# Altium integrated library Cypress Clocks & Buffers Clock Generation.IntLib: 249 symbols (part 1 of 12)
Pins are listed as number, name and electrical type; pins without a type are passive.

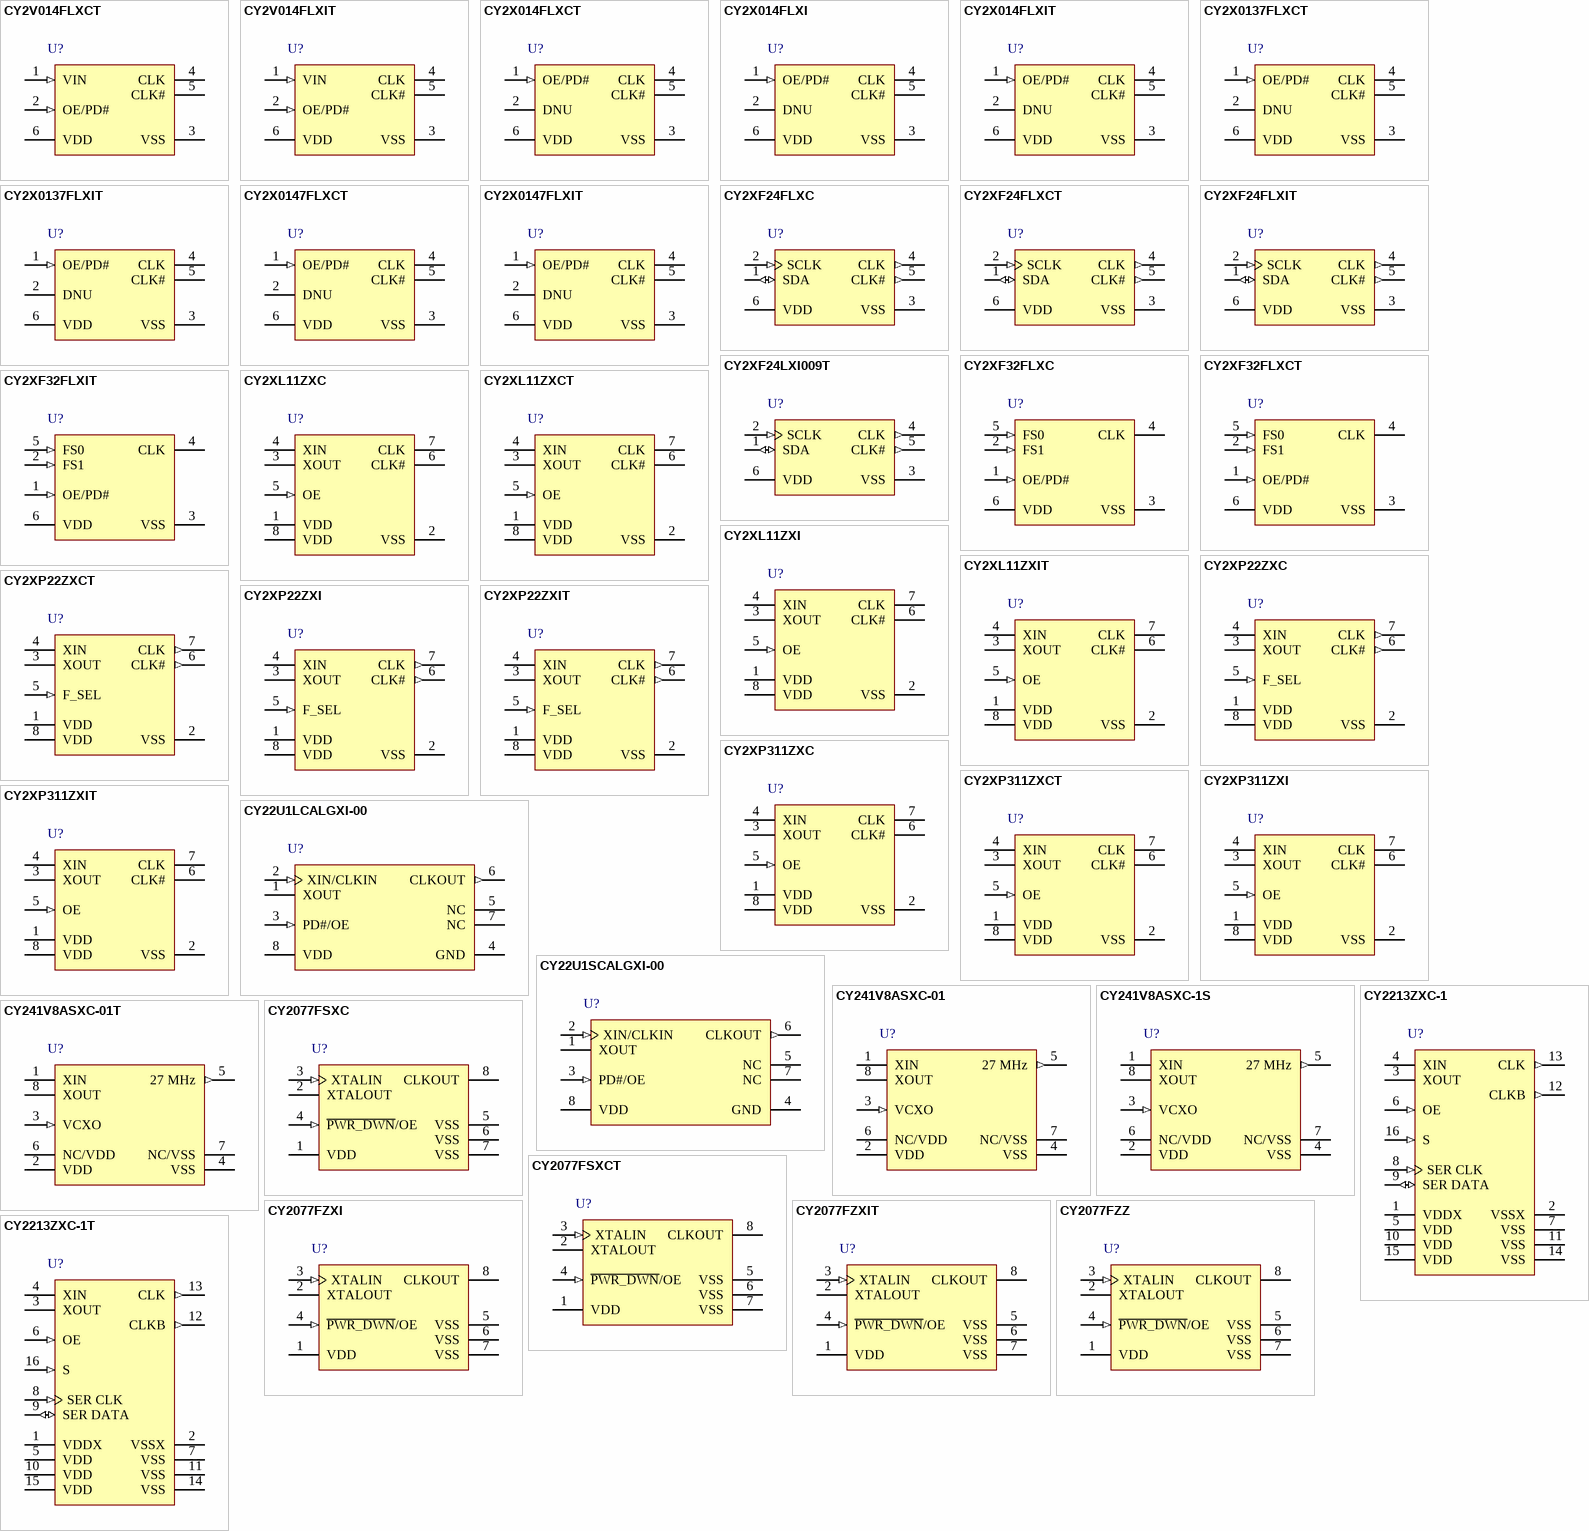
[diagram p0: symbols CY2V014FLXCT to CY2213ZXC-1T]

## CY2V014FLXCT
designator U?
LVPECL Voltage Controlled Crystal Oscillator (VCXO), 2.5 / 3.3 V, 1 Outputs, 50 to 690 MHz, 0 to 70 degC, 6-Pin LCC (LX6), Tape and Reel; Manufacturer: Cypress; PartNumber: CY2V014FLXCT; Max. Operating Voltage (V): 3.6; Min. Operating Voltage (V): 2.25; No. of Outputs: 1; Output Frequency Max. (MHz): 690; Output Frequency Min. (MHz): 50; DatasheetVersion: Rev. *C; PackageVersion: Rev. *A, 11/2009; PackageReference: LX6; PackageDescription: 6-Pin Ceramic LCC, Body 5 x 3.2 mm, Pitch 1.27 mm; Supplier 1: Digi-Key; Supplier Part Number 1: CY2V014FLXCT-ND; Supplier 2: Mouser; Supplier Part Number 2: 727-2V014FLXCT; Max. Operating Temp. (degreesC): 70; Min. Operating Temp. (degreesC): 0; Packing: Tape and Reel; RoHS: Pb-Free; Mounting Technology: Surface Mount; ComponentLink1Description: Manufacturer URL; ComponentLink1URL: http://www.cypress.com/; ComponentLink2Description: Datasheet; ComponentLink2URL: http://www.cypress.com/?docID=47221; ComponentLink3Description: Package Specification; ComponentLink3URL: http://www.cypress.com/?docID=27152
footprint CYP-LX6_V (LCC, 6-Leads, Body 5x3.2mm, Pitch 1.27mm)
pins: 1 VIN (in) "VCXO control voltage. Positive slope.", 2 OE/PD# (in) "Output Enable pin: Active HIGH. If OE = 1, CLK is enabled. Power down pin: Active LOW. If PD# = 0, Power-down is enabled. The functionality of this pin is programmable.", 3 VSS (power) "Power supply ground", 4 CLK (hiz) "Clock output. LVPECL outputs. CLK# is the complement of CLK.", 5 CLK# (hiz) "Clock output. LVPECL outputs. CLK# is the complement of CLK.", 6 VDD (power) "Positive power supply: 2.5 V or 3.3 V"

## CY2V014FLXIT
designator U?
LVPECL Voltage Controlled Crystal Oscillator (VCXO), 2.5 / 3.3 V, 1 Outputs, 50 to 690 MHz, -40 to 85 degC, 6-Pin LCC (LX6), Tape and Reel; Manufacturer: Cypress; PartNumber: CY2V014FLXIT; Max. Operating Voltage (V): 3.6; Min. Operating Voltage (V): 2.25; No. of Outputs: 1; Output Frequency Max. (MHz): 690; Output Frequency Min. (MHz): 50; DatasheetVersion: Rev. *C; PackageVersion: Rev. *A, 11/2009; PackageReference: LX6; PackageDescription: 6-Pin Ceramic LCC, Body 5 x 3.2 mm, Pitch 1.27 mm; Supplier 1: Digi-Key; Supplier Part Number 1: CY2V014FLXIT-ND; Supplier 2: Mouser; Supplier Part Number 2: 727-2V014FLXIT; Max. Operating Temp. (degreesC): 85; Min. Operating Temp. (degreesC): -40; Packing: Tape and Reel; RoHS: Pb-Free; Mounting Technology: Surface Mount; ComponentLink1Description: Manufacturer URL; ComponentLink1URL: http://www.cypress.com/; ComponentLink2Description: Datasheet; ComponentLink2URL: http://www.cypress.com/?docID=47221; ComponentLink3Description: Package Specification; ComponentLink3URL: http://www.cypress.com/?docID=27152
footprint CYP-LX6_V (LCC, 6-Leads, Body 5x3.2mm, Pitch 1.27mm)
pins: 1 VIN (in) "VCXO control voltage. Positive slope.", 2 OE/PD# (in) "Output Enable pin: Active HIGH. If OE = 1, CLK is enabled. Power down pin: Active LOW. If PD# = 0, Power-down is enabled. The functionality of this pin is programmable.", 3 VSS (power) "Power supply ground", 4 CLK (hiz) "Clock output. LVPECL outputs. CLK# is the complement of CLK.", 5 CLK# (hiz) "Clock output. LVPECL outputs. CLK# is the complement of CLK.", 6 VDD (power) "Positive power supply: 2.5 V or 3.3 V"

## CY2X014FLXCT
designator U?
Low Jitter LVPECL Crystal Oscillator, 2.5 / 3.3 V, 1 Output, 50 to 690 MHz, 0 to 70 degC, 6-Pin LCC (LX6), Tape and Reel; Manufacturer: Cypress; PartNumber: CY2X014FLXCT; Max. Operating Voltage (V): 3.6; Min. Operating Voltage (V): 2.375; No. of Outputs: 1; Output Frequency Max. (MHz): 690; Output Frequency Min. (MHz): 50; DatasheetVersion: Rev. *I; PackageVersion: Rev. *A, 11/2009; PackageReference: LX6; PackageDescription: 6-Pin Ceramic LCC, Body 5 x 3.2 mm, Pitch 1.27 mm; Supplier 1: Digi-Key; Supplier Part Number 1: CY2X014FLXCT-ND; Supplier 2: Mouser; Supplier Part Number 2: 727-CY2X014FLXCT; Max. Operating Temp. (degreesC): 70; Min. Operating Temp. (degreesC): 0; Packing: Tape and Reel; RoHS: Pb-Free; Mounting Technology: Surface Mount; ComponentLink1Description: Manufacturer URL; ComponentLink1URL: http://www.cypress.com/; ComponentLink2Description: Datasheet; ComponentLink2URL: http://www.cypress.com/?docID=41960; ComponentLink3Description: Package Specification; ComponentLink3URL: http://www.cypress.com/?docID=27152
footprint CYP-LX6_V (LCC, 6-Leads, Body 5x3.2mm, Pitch 1.27mm)
pins: 1 OE/PD# (in) "Output enable pin: Active HIGH. If OE = 1, CLK is enabled. Power down pin: Active LOW. If PD# = 0, Power-down is enabled. The functionality of this pin is programmable.", 2 DNU "Do not use: DNU pins are electrically connected, but perform no function", 3 VSS (power) "Ground", 4 CLK (hiz) "Differential output clock", 5 CLK# (hiz) "Differential output clock", 6 VDD (power) "Supply voltage: 2.5 V or 3.3 V"

## CY2X014FLXI
designator U?
Low Jitter LVPECL Crystal Oscillator, 2.5 / 3.3 V, 1 Output, 50 to 690 MHz, -40 to 85 degC, 6-Pin LCC (LX6), Tube; Manufacturer: Cypress; PartNumber: CY2X014FLXI; Max. Operating Voltage (V): 3.6; Min. Operating Voltage (V): 2.375; No. of Outputs: 1; Output Frequency Max. (MHz): 690; Output Frequency Min. (MHz): 50; DatasheetVersion: Rev. *I; PackageVersion: Rev. *A, 11/2009; PackageReference: LX6; PackageDescription: 6-Pin Ceramic LCC, Body 5 x 3.2 mm, Pitch 1.27 mm; Max. Operating Temp. (degreesC): 85; Min. Operating Temp. (degreesC): -40; Packing: Tube; RoHS: Pb-Free; Mounting Technology: Surface Mount; ComponentLink1Description: Manufacturer URL; ComponentLink1URL: http://www.cypress.com/; ComponentLink2Description: Datasheet; ComponentLink2URL: http://www.cypress.com/?docID=41960; ComponentLink3Description: Package Specification; ComponentLink3URL: http://www.cypress.com/?docID=27152
footprint CYP-LX6_V (LCC, 6-Leads, Body 5x3.2mm, Pitch 1.27mm)
pins: 1 OE/PD# (in) "Output enable pin: Active HIGH. If OE = 1, CLK is enabled. Power down pin: Active LOW. If PD# = 0, Power-down is enabled. The functionality of this pin is programmable.", 2 DNU "Do not use: DNU pins are electrically connected, but perform no function", 3 VSS (power) "Ground", 4 CLK (hiz) "Differential output clock", 5 CLK# (hiz) "Differential output clock", 6 VDD (power) "Supply voltage: 2.5 V or 3.3 V"

## CY2X014FLXIT
designator U?
Low Jitter LVPECL Crystal Oscillator, 2.5 / 3.3 V, 1 Output, 50 to 690 MHz, -40 to 85 degC, 6-Pin LCC (LX6), Tape and Reel; Manufacturer: Cypress; PartNumber: CY2X014FLXIT; Max. Operating Voltage (V): 3.6; Min. Operating Voltage (V): 2.375; No. of Outputs: 1; Output Frequency Max. (MHz): 690; Output Frequency Min. (MHz): 50; DatasheetVersion: Rev. *I; PackageVersion: Rev. *A, 11/2009; PackageReference: LX6; PackageDescription: 6-Pin Ceramic LCC, Body 5 x 3.2 mm, Pitch 1.27 mm; Supplier 1: Digi-Key; Supplier Part Number 1: CY2X014FLXIT-ND; Supplier 2: Mouser; Supplier Part Number 2: 727-CY2X014FLXIT; Max. Operating Temp. (degreesC): 85; Min. Operating Temp. (degreesC): -40; Packing: Tape and Reel; RoHS: Pb-Free; Mounting Technology: Surface Mount; ComponentLink1Description: Manufacturer URL; ComponentLink1URL: http://www.cypress.com/; ComponentLink2Description: Datasheet; ComponentLink2URL: http://www.cypress.com/?docID=41960; ComponentLink3Description: Package Specification; ComponentLink3URL: http://www.cypress.com/?docID=27152
footprint CYP-LX6_V (LCC, 6-Leads, Body 5x3.2mm, Pitch 1.27mm)
pins: 1 OE/PD# (in) "Output enable pin: Active HIGH. If OE = 1, CLK is enabled. Power down pin: Active LOW. If PD# = 0, Power-down is enabled. The functionality of this pin is programmable.", 2 DNU "Do not use: DNU pins are electrically connected, but perform no function", 3 VSS (power) "Ground", 4 CLK (hiz) "Differential output clock", 5 CLK# (hiz) "Differential output clock", 6 VDD (power) "Supply voltage: 2.5 V or 3.3 V"

## CY2X0137FLXCT
designator U?
High Performance LVDS Oscillator, 2.5 / 3.3 V, 1 Output, 50 to 690 MHz, 0 to 70 degC, 6-Pin LCC (LX6), Tape and Reel; Manufacturer: Cypress; PartNumber: CY2X0137FLXCT; Max. Operating Voltage (V): 3.6; Min. Operating Voltage (V): 2.375; No. of Outputs: 1; Output Frequency Max. (MHz): 690; Output Frequency Min. (MHz): 50; DatasheetVersion: Rev. *A; PackageVersion: Rev. *A, 11/2009; PackageReference: LX6; PackageDescription: 6-Pin Ceramic LCC, Body 5 x 3.2 mm, Pitch 1.27 mm; Supplier 1: Digi-Key; Supplier Part Number 1: CY2X0137FLXCT-ND; Supplier 2: Newark; Supplier Part Number 2: 24X0909; Supplier 3: Mouser; Supplier Part Number 3: 727-CY2X0137FLXCT; Max. Operating Temp. (degreesC): 70; Min. Operating Temp. (degreesC): 0; Packing: Tape and Reel; RoHS: Pb-Free; Mounting Technology: Surface Mount; ComponentLink1Description: Manufacturer URL; ComponentLink1URL: http://www.cypress.com/; ComponentLink2Description: Datasheet; ComponentLink2URL: http://www.cypress.com/?docID=46796; ComponentLink3Description: Package Specification; ComponentLink3URL: http://www.cypress.com/?docID=27152
footprint CYP-LX6_V (LCC, 6-Leads, Body 5x3.2mm, Pitch 1.27mm)
pins: 1 OE/PD# (in) "Output enable pin: Active HIGH. If OE = 1, CLK is enabled. Power-down pin: Active LOW. If PD# = 0, the device is powered down and the clock is disabled. The functionality of this pin is programmable", 2 DNU "Do not use: DNU pins are electrically connected, but perform no function", 3 VSS (power) "Ground", 4 CLK (hiz) "Differential output clock", 5 CLK# (hiz) "Differential output clock", 6 VDD (power) "Supply voltage: 2.5 V or 3.3 V"

## CY2X0137FLXIT
designator U?
High Performance LVDS Oscillator, 2.5 / 3.3 V, 1 Output, 50 to 690 MHz, -40 to 85 degC, 6-Pin LCC (LX6), Tape and Reel; Manufacturer: Cypress; PartNumber: CY2X0137FLXIT; Max. Operating Voltage (V): 3.6; Min. Operating Voltage (V): 2.375; No. of Outputs: 1; Output Frequency Max. (MHz): 690; Output Frequency Min. (MHz): 50; DatasheetVersion: Rev. *A; PackageVersion: Rev. *A, 11/2009; PackageReference: LX6; PackageDescription: 6-Pin Ceramic LCC, Body 5 x 3.2 mm, Pitch 1.27 mm; Supplier 1: Digi-Key; Supplier Part Number 1: CY2X0137FLXIT-ND; Supplier 2: Newark; Supplier Part Number 2: 24X0910; Supplier 3: Mouser; Supplier Part Number 3: 727-CY2X0137FLXIT; Max. Operating Temp. (degreesC): 85; Min. Operating Temp. (degreesC): -40; Packing: Tape and Reel; RoHS: Pb-Free; Mounting Technology: Surface Mount; ComponentLink1Description: Manufacturer URL; ComponentLink1URL: http://www.cypress.com/; ComponentLink2Description: Datasheet; ComponentLink2URL: http://www.cypress.com/?docID=46796; ComponentLink3Description: Package Specification; ComponentLink3URL: http://www.cypress.com/?docID=27152
footprint CYP-LX6_V (LCC, 6-Leads, Body 5x3.2mm, Pitch 1.27mm)
pins: 1 OE/PD# (in) "Output enable pin: Active HIGH. If OE = 1, CLK is enabled. Power-down pin: Active LOW. If PD# = 0, the device is powered down and the clock is disabled. The functionality of this pin is programmable", 2 DNU "Do not use: DNU pins are electrically connected, but perform no function", 3 VSS (power) "Ground", 4 CLK (hiz) "Differential output clock", 5 CLK# (hiz) "Differential output clock", 6 VDD (power) "Supply voltage: 2.5 V or 3.3 V"

## CY2X0147FLXCT
designator U?
Low Jitter LVPECL Crystal Oscillator, 2.5 / 3.3 V, 1 Output, 50 to 690 MHz, 0 to 70 degC, 6-Pin LCC (LX6), Tape and Reel; Manufacturer: Cypress; PartNumber: CY2X0147FLXCT; Max. Operating Voltage (V): 3.6; Min. Operating Voltage (V): 2.375; No. of Outputs: 1; Output Frequency Max. (MHz): 690; Output Frequency Min. (MHz): 50; DatasheetVersion: Rev. *A; PackageVersion: Rev. *A, 11/2009; PackageReference: LX6; PackageDescription: 6-Pin Ceramic LCC, Body 5 x 3.2 mm, Pitch 1.27 mm; Supplier 1: Digi-Key; Supplier Part Number 1: CY2X0147FLXCT-ND; Supplier 2: Newark; Supplier Part Number 2: 24X0912; Supplier 3: Mouser; Supplier Part Number 3: 727-CY2X0147FLXCT; Max. Operating Temp. (degreesC): 70; Min. Operating Temp. (degreesC): 0; Packing: Tape and Reel; RoHS: Pb-Free; Mounting Technology: Surface Mount; ComponentLink1Description: Manufacturer URL; ComponentLink1URL: http://www.cypress.com/; ComponentLink2Description: Datasheet; ComponentLink2URL: http://www.cypress.com/?docID=47300; ComponentLink3Description: Package Specification; ComponentLink3URL: http://www.cypress.com/?docID=27152
footprint CYP-LX6_V (LCC, 6-Leads, Body 5x3.2mm, Pitch 1.27mm)
pins: 1 OE/PD# (in) "Output enable pin: Active HIGH. If OE = 1, CLK is enabled. Power-down pin: Active LOW. If PD# = 0, the device is powered down and the clock is disabled. The functionality of this pin is programmable", 2 DNU "Do not use: DNU pins are electrically connected, but perform no function", 3 VSS (power) "Ground", 4 CLK (hiz) "Differential output clock", 5 CLK# (hiz) "Differential output clock", 6 VDD (power) "Supply voltage: 2.5 V or 3.3 V"

## CY2X0147FLXIT
designator U?
Low Jitter LVPECL Crystal Oscillator, 2.5 / 3.3 V, 1 Output, 50 to 690 MHz, -40 to 85 degC, 6-Pin LCC (LX6), Tape and Reel; Manufacturer: Cypress; PartNumber: CY2X0147FLXIT; Max. Operating Voltage (V): 3.6; Min. Operating Voltage (V): 2.375; No. of Outputs: 1; Output Frequency Max. (MHz): 690; Output Frequency Min. (MHz): 50; DatasheetVersion: Rev. *A; PackageVersion: Rev. *A, 11/2009; PackageReference: LX6; PackageDescription: 6-Pin Ceramic LCC, Body 5 x 3.2 mm, Pitch 1.27 mm; Supplier 1: Digi-Key; Supplier Part Number 1: CY2X0147FLXIT-ND; Supplier 2: Newark; Supplier Part Number 2: 24X0913; Supplier 3: Mouser; Supplier Part Number 3: 727-CY2X0147FLXIT; Max. Operating Temp. (degreesC): 85; Min. Operating Temp. (degreesC): -40; Packing: Tape and Reel; RoHS: Pb-Free; Mounting Technology: Surface Mount; ComponentLink1Description: Manufacturer URL; ComponentLink1URL: http://www.cypress.com/; ComponentLink2Description: Datasheet; ComponentLink2URL: http://www.cypress.com/?docID=47300; ComponentLink3Description: Package Specification; ComponentLink3URL: http://www.cypress.com/?docID=27152
footprint CYP-LX6_V (LCC, 6-Leads, Body 5x3.2mm, Pitch 1.27mm)
pins: 1 OE/PD# (in) "Output enable pin: Active HIGH. If OE = 1, CLK is enabled. Power-down pin: Active LOW. If PD# = 0, the device is powered down and the clock is disabled. The functionality of this pin is programmable", 2 DNU "Do not use: DNU pins are electrically connected, but perform no function", 3 VSS (power) "Ground", 4 CLK (hiz) "Differential output clock", 5 CLK# (hiz) "Differential output clock", 6 VDD (power) "Supply voltage: 2.5 V or 3.3 V"

## CY2XF24FLXC
designator U?
High Performance LVPECL Oscillator with Frequency Margining - I2C Control, 2.5 / 3.3 V, 1 Output, 50 to 690 MHz, 0 to 70 degC, 6-Pin LCC (LX6), Tray; Manufacturer: Cypress; PartNumber: CY2XF24FLXC; Max. Operating Voltage (V): 3.465; Min. Operating Voltage (V): 2.375; No. of Outputs: 1; Output Frequency Max. (MHz): 690; Output Frequency Min. (MHz): 50; DatasheetVersion: Rev. *H; PackageVersion: Rev. *A, 11/2009; PackageReference: LX6; PackageDescription: 6-Pin Ceramic LCC, Body 5 x 3.2 mm, Pitch 1.27 mm; Max. Operating Temp. (degreesC): 70; Min. Operating Temp. (degreesC): 0; Packing: Tray; RoHS: Pb-Free; Mounting Technology: Surface Mount; ComponentLink1Description: Manufacturer URL; ComponentLink1URL: http://www.cypress.com/; ComponentLink2Description: Datasheet; ComponentLink2URL: http://www.cypress.com/?docID=42224; ComponentLink3Description: Package Specification; ComponentLink3URL: http://www.cypress.com/?docID=27152
footprint CYP-LX6_V (LCC, 6-Leads, Body 5x3.2mm, Pitch 1.27mm)
pins: 1 SDA (io) "I2C serial data", 2 SCLK (in) "I2C serial clock", 3 VSS (power) "Ground", 4 CLK (out) "Differential output clock", 5 CLK# (out) "Differential output clock", 6 VDD (power) "Supply voltage: 2.5 V or 3.3 V"

## CY2XF24FLXCT
designator U?
High Performance LVPECL Oscillator with Frequency Margining - I2C Control, 2.5 / 3.3 V, 1 Output, 50 to 690 MHz, 0 to 70 degC, 6-Pin LCC (LX6), Tape and Reel; Manufacturer: Cypress; PartNumber: CY2XF24FLXCT; Max. Operating Voltage (V): 3.465; Min. Operating Voltage (V): 2.375; No. of Outputs: 1; Output Frequency Max. (MHz): 690; Output Frequency Min. (MHz): 50; DatasheetVersion: Rev. *H; PackageVersion: Rev. *A, 11/2009; PackageReference: LX6; PackageDescription: 6-Pin Ceramic LCC, Body 5 x 3.2 mm, Pitch 1.27 mm; Supplier 1: Digi-Key; Supplier Part Number 1: CY2XF24FLXCT-ND; Supplier 2: Mouser; Supplier Part Number 2: 727-CY2XF24FLXCT; Max. Operating Temp. (degreesC): 70; Min. Operating Temp. (degreesC): 0; Packing: Tape and Reel; RoHS: Pb-Free; Mounting Technology: Surface Mount; ComponentLink1Description: Manufacturer URL; ComponentLink1URL: http://www.cypress.com/; ComponentLink2Description: Datasheet; ComponentLink2URL: http://www.cypress.com/?docID=42224; ComponentLink3Description: Package Specification; ComponentLink3URL: http://www.cypress.com/?docID=27152
footprint CYP-LX6_V (LCC, 6-Leads, Body 5x3.2mm, Pitch 1.27mm)
pins: 1 SDA (io) "I2C serial data", 2 SCLK (in) "I2C serial clock", 3 VSS (power) "Ground", 4 CLK (out) "Differential output clock", 5 CLK# (out) "Differential output clock", 6 VDD (power) "Supply voltage: 2.5 V or 3.3 V"

## CY2XF24FLXIT
designator U?
High Performance LVPECL Oscillator with Frequency Margining - I2C Control, 2.5 / 3.3 V, 1 Output, 50 to 690 MHz, -40 to 85 degC, 6-Pin LCC (LX6), Tape and Reel; Manufacturer: Cypress; PartNumber: CY2XF24FLXIT; Max. Operating Voltage (V): 3.465; Min. Operating Voltage (V): 2.375; No. of Outputs: 1; Output Frequency Max. (MHz): 690; Output Frequency Min. (MHz): 50; DatasheetVersion: Rev. *H; PackageVersion: Rev. *A, 11/2009; PackageReference: LX6; PackageDescription: 6-Pin Ceramic LCC, Body 5 x 3.2 mm, Pitch 1.27 mm; Supplier 1: Digi-Key; Supplier Part Number 1: CY2XF24FLXIT-ND; Supplier 2: Mouser; Supplier Part Number 2: 727-2XF24FLXIT; Max. Operating Temp. (degreesC): 85; Min. Operating Temp. (degreesC): -40; Packing: Tape and Reel; RoHS: Pb-Free; Mounting Technology: Surface Mount; ComponentLink1Description: Manufacturer URL; ComponentLink1URL: http://www.cypress.com/; ComponentLink2Description: Datasheet; ComponentLink2URL: http://www.cypress.com/?docID=42224; ComponentLink3Description: Package Specification; ComponentLink3URL: http://www.cypress.com/?docID=27152
footprint CYP-LX6_V (LCC, 6-Leads, Body 5x3.2mm, Pitch 1.27mm)
pins: 1 SDA (io) "I2C serial data", 2 SCLK (in) "I2C serial clock", 3 VSS (power) "Ground", 4 CLK (out) "Differential output clock", 5 CLK# (out) "Differential output clock", 6 VDD (power) "Supply voltage: 2.5 V or 3.3 V"

## CY2XF24LXI009T
designator U?
High Performance LVPECL Oscillator with Frequency Margining - I2C Control, 2.5 / 3.3 V, 1 Output, 100 to 400 MHz, -40 to 85 degC, 6-Pin LCC (LX6), Tape and Reel; Manufacturer: Cypress; PartNumber: CY2XF24LXI009T; Max. Operating Voltage (V): 3.465; Min. Operating Voltage (V): 2.375; No. of Outputs: 1; Output Frequency Max. (MHz): 400; Output Frequency Min. (MHz): 100; DatasheetVersion: Rev. *H; PackageVersion: Rev. *A, 11/2009; PackageReference: LX6; PackageDescription: 6-Pin Ceramic LCC, Body 5 x 3.2 mm, Pitch 1.27 mm; Supplier 1: Mouser; Supplier Part Number 1: 727-CY2XF24LXI009T; Max. Operating Temp. (degreesC): 85; Min. Operating Temp. (degreesC): -40; Packing: Tape and Reel; RoHS: Pb-Free; Mounting Technology: Surface Mount; ComponentLink1Description: Manufacturer URL; ComponentLink1URL: http://www.cypress.com/; ComponentLink2Description: Datasheet; ComponentLink2URL: http://www.cypress.com/?docID=42224; ComponentLink3Description: Package Specification; ComponentLink3URL: http://www.cypress.com/?docID=27152
footprint CYP-LX6_V (LCC, 6-Leads, Body 5x3.2mm, Pitch 1.27mm)
pins: 1 SDA (io) "I2C serial data", 2 SCLK (in) "I2C serial clock", 3 VSS (power) "Ground", 4 CLK (out) "Differential output clock", 5 CLK# (out) "Differential output clock", 6 VDD (power) "Supply voltage: 2.5 V or 3.3 V"

## CY2XF32FLXC
designator U?
High Performance CMOS Oscillator with Frequency Margining - Pin Control, 2.5 / 3.3 V, 1 Output, 8 to 200 MHz, 0 to 70 degC, 6-Pin LCC (LX6), Tray; Manufacturer: Cypress; PartNumber: CY2XF32FLXC; Max. Operating Voltage (V): 3.465; Min. Operating Voltage (V): 2.375; No. of Outputs: 1; Output Frequency Max. (MHz): 200; Output Frequency Min. (MHz): 8; DatasheetVersion: Rev. *D; PackageVersion: Rev. *A, 11/2009; PackageReference: LX6; PackageDescription: 6-Pin Ceramic LCC, Body 5 x 3.2 mm, Pitch 1.27 mm; Max. Operating Temp. (degreesC): 70; Min. Operating Temp. (degreesC): 0; Packing: Tray; RoHS: Pb-Free; Mounting Technology: Surface Mount; ComponentLink1Description: Manufacturer URL; ComponentLink1URL: http://www.cypress.com/; ComponentLink2Description: Datasheet; ComponentLink2URL: http://www.cypress.com/?docID=29037; ComponentLink3Description: Package Specification; ComponentLink3URL: http://www.cypress.com/?docID=27152
footprint CYP-LX6_V (LCC, 6-Leads, Body 5x3.2mm, Pitch 1.27mm)
pins: 1 OE/PD# (in) "Output Enable or Power-down: Functionality is a programming option; see Table 3 and Table 4 for details.", 2 FS1 (in) "Frequency Select.", 3 VSS (power) "Ground", 4 CLK (hiz) "Clock Output.", 5 FS0 (in) "Frequency Select.", 6 VDD (power) "Supply Voltage: 2.5 V or 3.3 V"

## CY2XF32FLXCT
designator U?
High Performance CMOS Oscillator with Frequency Margining - Pin Control, 2.5 / 3.3 V, 1 Output, 8 to 200 MHz, 0 to 70 degC, 6-Pin LCC (LX6), Tape and Reel; Manufacturer: Cypress; PartNumber: CY2XF32FLXCT; Max. Operating Voltage (V): 3.465; Min. Operating Voltage (V): 2.375; No. of Outputs: 1; Output Frequency Max. (MHz): 200; Output Frequency Min. (MHz): 8; DatasheetVersion: Rev. *D; PackageVersion: Rev. *A, 11/2009; PackageReference: LX6; PackageDescription: 6-Pin Ceramic LCC, Body 5 x 3.2 mm, Pitch 1.27 mm; Supplier 1: Digi-Key; Supplier Part Number 1: CY2XF32FLXCT-ND; Supplier 2: Mouser; Supplier Part Number 2: 727-CY2XF32FLXCT; Max. Operating Temp. (degreesC): 70; Min. Operating Temp. (degreesC): 0; Packing: Tape and Reel; RoHS: Pb-Free; Mounting Technology: Surface Mount; ComponentLink1Description: Manufacturer URL; ComponentLink1URL: http://www.cypress.com/; ComponentLink2Description: Datasheet; ComponentLink2URL: http://www.cypress.com/?docID=29037; ComponentLink3Description: Package Specification; ComponentLink3URL: http://www.cypress.com/?docID=27152
footprint CYP-LX6_V (LCC, 6-Leads, Body 5x3.2mm, Pitch 1.27mm)
pins: 1 OE/PD# (in) "Output Enable or Power-down: Functionality is a programming option; see Table 3 and Table 4 for details.", 2 FS1 (in) "Frequency Select.", 3 VSS (power) "Ground", 4 CLK (hiz) "Clock Output.", 5 FS0 (in) "Frequency Select.", 6 VDD (power) "Supply Voltage: 2.5 V or 3.3 V"

## CY2XF32FLXIT
designator U?
High Performance CMOS Oscillator with Frequency Margining - Pin Control, 2.5 / 3.3 V, 1 Output, 8 to 200 MHz, -40 to 85 degC, 6-Pin LCC (LX6), Tape and Reel; Manufacturer: Cypress; PartNumber: CY2XF32FLXIT; Max. Operating Voltage (V): 3.465; Min. Operating Voltage (V): 2.375; No. of Outputs: 1; Output Frequency Max. (MHz): 200; Output Frequency Min. (MHz): 8; DatasheetVersion: Rev. *D; PackageVersion: Rev. *A, 11/2009; PackageReference: LX6; PackageDescription: 6-Pin Ceramic LCC, Body 5 x 3.2 mm, Pitch 1.27 mm; Supplier 1: Mouser; Supplier Part Number 1: 727-2XF32FLXIT; Max. Operating Temp. (degreesC): 85; Min. Operating Temp. (degreesC): -40; Packing: Tape and Reel; RoHS: Pb-Free; Mounting Technology: Surface Mount; ComponentLink1Description: Manufacturer URL; ComponentLink1URL: http://www.cypress.com/; ComponentLink2Description: Datasheet; ComponentLink2URL: http://www.cypress.com/?docID=29037; ComponentLink3Description: Package Specification; ComponentLink3URL: http://www.cypress.com/?docID=27152
footprint CYP-LX6_V (LCC, 6-Leads, Body 5x3.2mm, Pitch 1.27mm)
pins: 1 OE/PD# (in) "Output Enable or Power-down: Functionality is a programming option; see Table 3 and Table 4 for details.", 2 FS1 (in) "Frequency Select.", 3 VSS (power) "Ground", 4 CLK (hiz) "Clock Output.", 5 FS0 (in) "Frequency Select.", 6 VDD (power) "Supply Voltage: 2.5 V or 3.3 V"

## CY2XL11ZXC
designator U?
LVDS Clock Generator, 2.5 / 3.3 V, 1 Output, 100 MHz,0 to 70 degC, 8-Pin TSSOP (ZX8), Tube; Manufacturer: Cypress; PartNumber: CY2XL11ZXC; Max. Operating Voltage (V): 3.465; Min. Operating Voltage (V): 2.375; No. of Outputs: 1; DatasheetVersion: Rev. *G; PackageVersion: Rev. *D, 09/2011; PackageReference: ZX8; PackageDescription: 8-Pin Thin Shrink Small Outline Package, Body 3 x 4.4 mm, Pitch 0.65 mm; Supplier 1: Digi-Key; Supplier Part Number 1: CY2XL11ZXC-ND; Supplier 2: Mouser; Supplier Part Number 2: 727-CY2XL11ZXC; Max. Operating Temp. (degreesC): 70; Min. Operating Temp. (degreesC): 0; Packing: Tube; RoHS: Pb-Free; Mounting Technology: Surface Mount; Code_JEDEC: MO-153; ComponentLink1Description: Manufacturer URL; ComponentLink1URL: http://www.cypress.com/; ComponentLink2Description: Datasheet; ComponentLink2URL: http://www.cypress.com/?docID=48625; ComponentLink3Description: Package Specification; ComponentLink3URL: http://www.cypress.com/?docID=39142
footprint CYP-ZX8_N (SOP, 8-Leads, Body 4.5x3.1mm, Pitch 0.65mm, IPC Medium Density)
footprint CYP-ZX8_L (SOP, 8-Leads, Body 4.5x3.1mm, Pitch 0.65mm, IPC High Density)
footprint CYP-ZX8_M (SOP, 8-Leads, Body 4.5x3.1mm, Pitch 0.65mm, IPC Low Density)
pins: 1 VDD (power) "3.3 V or 2.5 V power supply. All supply current flows through pin 1", 2 VSS (power) "Ground", 3 XOUT "Parallel resonant crystal interface", 4 XIN "Parallel resonant crystal interface", 5 OE (in) "Output enable. When HIGH, the output is enabled. When LOW, the output is high-impedance", 6 CLK# (hiz) "Differential clock output", 7 CLK (hiz) "Differential clock output", 8 VDD (power) "3.3 V or 2.5 V power supply. All supply current flows through pin 1"

## CY2XL11ZXCT
designator U?
LVDS Clock Generator, 2.5 / 3.3 V, 1 Output, 100 MHz,0 to 70 degC, 8-Pin TSSOP (ZX8), Tape and Reel; Manufacturer: Cypress; PartNumber: CY2XL11ZXCT; Max. Operating Voltage (V): 3.465; Min. Operating Voltage (V): 2.375; No. of Outputs: 1; DatasheetVersion: Rev. *G; PackageVersion: Rev. *D, 09/2011; PackageReference: ZX8; PackageDescription: 8-Pin Thin Shrink Small Outline Package, Body 3 x 4.4 mm, Pitch 0.65 mm; Supplier 1: Digi-Key; Supplier Part Number 1: CY2XL11ZXCT-ND; Supplier 2: Mouser; Supplier Part Number 2: 727-CY2XL11ZXCT; Max. Operating Temp. (degreesC): 70; Min. Operating Temp. (degreesC): 0; Packing: Tape and Reel; RoHS: Pb-Free; Mounting Technology: Surface Mount; Code_JEDEC: MO-153; ComponentLink1Description: Manufacturer URL; ComponentLink1URL: http://www.cypress.com/; ComponentLink2Description: Datasheet; ComponentLink2URL: http://www.cypress.com/?docID=48625; ComponentLink3Description: Package Specification; ComponentLink3URL: http://www.cypress.com/?docID=39142
footprint CYP-ZX8_N (SOP, 8-Leads, Body 4.5x3.1mm, Pitch 0.65mm, IPC Medium Density)
footprint CYP-ZX8_L (SOP, 8-Leads, Body 4.5x3.1mm, Pitch 0.65mm, IPC High Density)
footprint CYP-ZX8_M (SOP, 8-Leads, Body 4.5x3.1mm, Pitch 0.65mm, IPC Low Density)
pins: 1 VDD (power) "3.3 V or 2.5 V power supply. All supply current flows through pin 1", 2 VSS (power) "Ground", 3 XOUT "Parallel resonant crystal interface", 4 XIN "Parallel resonant crystal interface", 5 OE (in) "Output enable. When HIGH, the output is enabled. When LOW, the output is high-impedance", 6 CLK# (hiz) "Differential clock output", 7 CLK (hiz) "Differential clock output", 8 VDD (power) "3.3 V or 2.5 V power supply. All supply current flows through pin 1"

## CY2XL11ZXI
designator U?
LVDS Clock Generator, 2.5 / 3.3 V, 1 Output, 100 MHz, -40 to 85 degC, 8-Pin TSSOP (ZX8), Tube; Manufacturer: Cypress; PartNumber: CY2XL11ZXI; Max. Operating Voltage (V): 3.465; Min. Operating Voltage (V): 2.375; No. of Outputs: 1; DatasheetVersion: Rev. *G; PackageVersion: Rev. *D, 09/2011; PackageReference: ZX8; PackageDescription: 8-Pin Thin Shrink Small Outline Package, Body 3 x 4.4 mm, Pitch 0.65 mm; Max. Operating Temp. (degreesC): 85; Min. Operating Temp. (degreesC): -40; Packing: Tube; RoHS: Pb-Free; Mounting Technology: Surface Mount; Code_JEDEC: MO-153; ComponentLink1Description: Manufacturer URL; ComponentLink1URL: http://www.cypress.com/; ComponentLink2Description: Datasheet; ComponentLink2URL: http://www.cypress.com/?docID=48625; ComponentLink3Description: Package Specification; ComponentLink3URL: http://www.cypress.com/?docID=39142
footprint CYP-ZX8_N (SOP, 8-Leads, Body 4.5x3.1mm, Pitch 0.65mm, IPC Medium Density)
footprint CYP-ZX8_L (SOP, 8-Leads, Body 4.5x3.1mm, Pitch 0.65mm, IPC High Density)
footprint CYP-ZX8_M (SOP, 8-Leads, Body 4.5x3.1mm, Pitch 0.65mm, IPC Low Density)
pins: 1 VDD (power) "3.3 V or 2.5 V power supply. All supply current flows through pin 1", 2 VSS (power) "Ground", 3 XOUT "Parallel resonant crystal interface", 4 XIN "Parallel resonant crystal interface", 5 OE (in) "Output enable. When HIGH, the output is enabled. When LOW, the output is high-impedance", 6 CLK# (hiz) "Differential clock output", 7 CLK (hiz) "Differential clock output", 8 VDD (power) "3.3 V or 2.5 V power supply. All supply current flows through pin 1"

## CY2XL11ZXIT
designator U?
LVDS Clock Generator, 2.5 / 3.3 V, 1 Output, 100 MHz, -40 to 85 degC, 8-Pin TSSOP (ZX8), Tape and Reel; Manufacturer: Cypress; PartNumber: CY2XL11ZXIT; Max. Operating Voltage (V): 3.465; Min. Operating Voltage (V): 2.375; No. of Outputs: 1; DatasheetVersion: Rev. *G; PackageVersion: Rev. *D, 09/2011; PackageReference: ZX8; PackageDescription: 8-Pin Thin Shrink Small Outline Package, Body 3 x 4.4 mm, Pitch 0.65 mm; Max. Operating Temp. (degreesC): 85; Min. Operating Temp. (degreesC): -40; Packing: Tape and Reel; RoHS: Pb-Free; Mounting Technology: Surface Mount; Code_JEDEC: MO-153; ComponentLink1Description: Manufacturer URL; ComponentLink1URL: http://www.cypress.com/; ComponentLink2Description: Datasheet; ComponentLink2URL: http://www.cypress.com/?docID=48625; ComponentLink3Description: Package Specification; ComponentLink3URL: http://www.cypress.com/?docID=39142
footprint CYP-ZX8_N (SOP, 8-Leads, Body 4.5x3.1mm, Pitch 0.65mm, IPC Medium Density)
footprint CYP-ZX8_L (SOP, 8-Leads, Body 4.5x3.1mm, Pitch 0.65mm, IPC High Density)
footprint CYP-ZX8_M (SOP, 8-Leads, Body 4.5x3.1mm, Pitch 0.65mm, IPC Low Density)
pins: 1 VDD (power) "3.3 V or 2.5 V power supply. All supply current flows through pin 1", 2 VSS (power) "Ground", 3 XOUT "Parallel resonant crystal interface", 4 XIN "Parallel resonant crystal interface", 5 OE (in) "Output enable. When HIGH, the output is enabled. When LOW, the output is high-impedance", 6 CLK# (hiz) "Differential clock output", 7 CLK (hiz) "Differential clock output", 8 VDD (power) "3.3 V or 2.5 V power supply. All supply current flows through pin 1"

## CY2XP22ZXC
designator U?
Crystal to LVPECL Clock Generator, 2.5 / 3.3 V, 1 Output, 62.5 to 125 MHz, 0 to 70 degC, 8-Pin TSSOP (ZX8), Tube; Manufacturer: Cypress; PartNumber: CY2XP22ZXC; Max. Operating Voltage (V): 3.465; Min. Operating Voltage (V): 2.375; No. of Outputs: 1; Output Frequency Max. (MHz): 125; Output Frequency Min. (MHz): 62.5; DatasheetVersion: Rev. *G; PackageVersion: Rev. *D, 09/2011; PackageReference: ZX8; PackageDescription: 8-Pin Thin Shrink Small Outline Package, Body 3 x 4.4 mm, Pitch 0.65 mm; Supplier 1: Digi-Key; Supplier Part Number 1: 428-3059-5-ND; Supplier 2: Mouser; Supplier Part Number 2: 727-CY2XP22ZXC; Max. Operating Temp. (degreesC): 70; Min. Operating Temp. (degreesC): 0; Packing: Tube; RoHS: Pb-Free; Mounting Technology: Surface Mount; Code_JEDEC: MO-153; ComponentLink1Description: Manufacturer URL; ComponentLink1URL: http://www.cypress.com/; ComponentLink2Description: Datasheet; ComponentLink2URL: http://www.cypress.com/?docID=49059; ComponentLink3Description: Package Specification; ComponentLink3URL: http://www.cypress.com/?docID=39142
footprint CYP-ZX8_N (SOP, 8-Leads, Body 4.5x3.1mm, Pitch 0.65mm, IPC Medium Density)
footprint CYP-ZX8_L (SOP, 8-Leads, Body 4.5x3.1mm, Pitch 0.65mm, IPC High Density)
footprint CYP-ZX8_M (SOP, 8-Leads, Body 4.5x3.1mm, Pitch 0.65mm, IPC Low Density)
pins: 1 VDD (power) "3.3 V or 2.5 V power supply", 2 VSS (power) "Ground", 3 XOUT "Parallel resonant crystal interface", 4 XIN "Parallel resonant crystal interface", 5 F_SEL (in) "Frequency Select: see Frequency Table", 6 CLK# (out) "Differential clock output", 7 CLK (out) "Differential clock output", 8 VDD (power) "3.3 V or 2.5 V power supply"

## CY2XP22ZXCT
designator U?
Crystal to LVPECL Clock Generator, 2.5 / 3.3 V, 1 Output, 62.5 to 125 MHz, 0 to 70 degC, 8-Pin TSSOP (ZX8), Tape and Reel; Manufacturer: Cypress; PartNumber: CY2XP22ZXCT; Max. Operating Voltage (V): 3.465; Min. Operating Voltage (V): 2.375; No. of Outputs: 1; Output Frequency Max. (MHz): 125; Output Frequency Min. (MHz): 62.5; DatasheetVersion: Rev. *G; PackageVersion: Rev. *D, 09/2011; PackageReference: ZX8; PackageDescription: 8-Pin Thin Shrink Small Outline Package, Body 3 x 4.4 mm, Pitch 0.65 mm; Supplier 1: Digi-Key; Supplier Part Number 1: CY2XP22ZXCT-ND; Supplier 2: Mouser; Supplier Part Number 2: 727-CY2XP22ZXCT; Max. Operating Temp. (degreesC): 70; Min. Operating Temp. (degreesC): 0; Packing: Tape and Reel; RoHS: Pb-Free; Mounting Technology: Surface Mount; Code_JEDEC: MO-153; ComponentLink1Description: Manufacturer URL; ComponentLink1URL: http://www.cypress.com/; ComponentLink2Description: Datasheet; ComponentLink2URL: http://www.cypress.com/?docID=49059; ComponentLink3Description: Package Specification; ComponentLink3URL: http://www.cypress.com/?docID=39142
footprint CYP-ZX8_N (SOP, 8-Leads, Body 4.5x3.1mm, Pitch 0.65mm, IPC Medium Density)
footprint CYP-ZX8_L (SOP, 8-Leads, Body 4.5x3.1mm, Pitch 0.65mm, IPC High Density)
footprint CYP-ZX8_M (SOP, 8-Leads, Body 4.5x3.1mm, Pitch 0.65mm, IPC Low Density)
pins: 1 VDD (power) "3.3 V or 2.5 V power supply", 2 VSS (power) "Ground", 3 XOUT "Parallel resonant crystal interface", 4 XIN "Parallel resonant crystal interface", 5 F_SEL (in) "Frequency Select: see Frequency Table", 6 CLK# (out) "Differential clock output", 7 CLK (out) "Differential clock output", 8 VDD (power) "3.3 V or 2.5 V power supply"

## CY2XP22ZXI
designator U?
Crystal to LVPECL Clock Generator, 2.5 / 3.3 V, 1 Output, 62.5 to 125 MHz, -40 to 85 degC, 8-Pin TSSOP (ZX8), Tube; Manufacturer: Cypress; PartNumber: CY2XP22ZXI; Max. Operating Voltage (V): 3.465; Min. Operating Voltage (V): 2.375; No. of Outputs: 1; Output Frequency Max. (MHz): 125; Output Frequency Min. (MHz): 62.5; DatasheetVersion: Rev. *G; PackageVersion: Rev. *D, 09/2011; PackageReference: ZX8; PackageDescription: 8-Pin Thin Shrink Small Outline Package, Body 3 x 4.4 mm, Pitch 0.65 mm; Supplier 1: Digi-Key; Supplier Part Number 1: CY2XP22ZXI-ND; Supplier 2: Mouser; Supplier Part Number 2: 727-2XP22ZXI; Max. Operating Temp. (degreesC): 85; Min. Operating Temp. (degreesC): -40; Packing: Tube; RoHS: Pb-Free; Mounting Technology: Surface Mount; Code_JEDEC: MO-153; ComponentLink1Description: Manufacturer URL; ComponentLink1URL: http://www.cypress.com/; ComponentLink2Description: Datasheet; ComponentLink2URL: http://www.cypress.com/?docID=49059; ComponentLink3Description: Package Specification; ComponentLink3URL: http://www.cypress.com/?docID=39142
footprint CYP-ZX8_N (SOP, 8-Leads, Body 4.5x3.1mm, Pitch 0.65mm, IPC Medium Density)
footprint CYP-ZX8_L (SOP, 8-Leads, Body 4.5x3.1mm, Pitch 0.65mm, IPC High Density)
footprint CYP-ZX8_M (SOP, 8-Leads, Body 4.5x3.1mm, Pitch 0.65mm, IPC Low Density)
pins: 1 VDD (power) "3.3 V or 2.5 V power supply", 2 VSS (power) "Ground", 3 XOUT "Parallel resonant crystal interface", 4 XIN "Parallel resonant crystal interface", 5 F_SEL (in) "Frequency Select: see Frequency Table", 6 CLK# (out) "Differential clock output", 7 CLK (out) "Differential clock output", 8 VDD (power) "3.3 V or 2.5 V power supply"

## CY2XP22ZXIT
designator U?
Crystal to LVPECL Clock Generator, 2.5 / 3.3 V, 1 Output, 62.5 to 125 MHz, -40 to 85 degC, 8-Pin TSSOP (ZX8), Tape and Reel; Manufacturer: Cypress; PartNumber: CY2XP22ZXIT; Max. Operating Voltage (V): 3.465; Min. Operating Voltage (V): 2.375; No. of Outputs: 1; Output Frequency Max. (MHz): 125; Output Frequency Min. (MHz): 62.5; DatasheetVersion: Rev. *G; PackageVersion: Rev. *D, 09/2011; PackageReference: ZX8; PackageDescription: 8-Pin Thin Shrink Small Outline Package, Body 3 x 4.4 mm, Pitch 0.65 mm; Supplier 1: Digi-Key; Supplier Part Number 1: CY2XP22ZXIT-ND; Supplier 2: Mouser; Supplier Part Number 2: 727-2XP22ZXIT; Max. Operating Temp. (degreesC): 85; Min. Operating Temp. (degreesC): -40; Packing: Tape and Reel; RoHS: Pb-Free; Mounting Technology: Surface Mount; Code_JEDEC: MO-153; ComponentLink1Description: Manufacturer URL; ComponentLink1URL: http://www.cypress.com/; ComponentLink2Description: Datasheet; ComponentLink2URL: http://www.cypress.com/?docID=49059; ComponentLink3Description: Package Specification; ComponentLink3URL: http://www.cypress.com/?docID=39142
footprint CYP-ZX8_N (SOP, 8-Leads, Body 4.5x3.1mm, Pitch 0.65mm, IPC Medium Density)
footprint CYP-ZX8_L (SOP, 8-Leads, Body 4.5x3.1mm, Pitch 0.65mm, IPC High Density)
footprint CYP-ZX8_M (SOP, 8-Leads, Body 4.5x3.1mm, Pitch 0.65mm, IPC Low Density)
pins: 1 VDD (power) "3.3 V or 2.5 V power supply", 2 VSS (power) "Ground", 3 XOUT "Parallel resonant crystal interface", 4 XIN "Parallel resonant crystal interface", 5 F_SEL (in) "Frequency Select: see Frequency Table", 6 CLK# (out) "Differential clock output", 7 CLK (out) "Differential clock output", 8 VDD (power) "3.3 V or 2.5 V power supply"

## CY2XP311ZXC
designator U?
LVPECL Clock Generator, 2.5 / 3.3 V, 1 Output, 312.5 MHz, 0 to 70 degC, 8-Pin TSSOP (ZX8), Tube; Manufacturer: Cypress; PartNumber: CY2XP311ZXC; Input Frequency Max. (MHz): 25; Max. Operating Voltage (V): 3.465; Min. Operating Voltage (V): 2.375; No. of Outputs: 1; Output Frequency Max. (MHz): 312.5; DatasheetVersion: Rev. *G; PackageVersion: Rev. *D, 09/2011; PackageReference: ZX8; PackageDescription: 8-Pin Thin Shrink Small Outline Package, Body 3 x 4.4 mm, Pitch 0.65 mm; Supplier 1: Digi-Key; Supplier Part Number 1: CY2XP311ZXC-ND; Supplier 2: Mouser; Supplier Part Number 2: 727-2XP311ZXC; Input Frequency Min. (MHz): 25; Max. Operating Temp. (degreesC): 70; Min. Operating Temp. (degreesC): 0; Output Frequency Min. (MHz): 312.5; Packing: Tube; RoHS: Pb-Free; Mounting Technology: Surface Mount; Code_JEDEC: MO-153; ComponentLink1Description: Manufacturer URL; ComponentLink1URL: http://www.cypress.com/; ComponentLink2Description: Datasheet; ComponentLink2URL: http://www.cypress.com/?docID=49059; ComponentLink3Description: Package Specification; ComponentLink3URL: http://www.cypress.com/?docID=39142
footprint CYP-ZX8_N (SOP, 8-Leads, Body 4.5x3.1mm, Pitch 0.65mm, IPC Medium Density)
footprint CYP-ZX8_L (SOP, 8-Leads, Body 4.5x3.1mm, Pitch 0.65mm, IPC High Density)
footprint CYP-ZX8_M (SOP, 8-Leads, Body 4.5x3.1mm, Pitch 0.65mm, IPC Low Density)
pins: 1 VDD (power) "3.3 V or 2.5 V power supply", 2 VSS (power) "Ground", 3 XOUT "Parallel resonant crystal interface", 4 XIN "Parallel resonant crystal interface", 5 OE (in) "Output enable. When HIGH, the output is enabled. When LOW, the output is high-impedance", 6 CLK# (hiz) "Differential clock output", 7 CLK (hiz) "Differential clock output", 8 VDD (power) "3.3 V or 2.5 V power supply"

## CY2XP311ZXCT
designator U?
LVPECL Clock Generator, 2.5 / 3.3 V, 1 Output, 312.5 MHz, 0 to 70 degC, 8-Pin TSSOP (ZX8), Tape and Reel; Manufacturer: Cypress; PartNumber: CY2XP311ZXCT; Input Frequency Max. (MHz): 25; Max. Operating Voltage (V): 3.465; Min. Operating Voltage (V): 2.375; No. of Outputs: 1; Output Frequency Max. (MHz): 312.5; DatasheetVersion: Rev. *G; PackageVersion: Rev. *D, 09/2011; PackageReference: ZX8; PackageDescription: 8-Pin Thin Shrink Small Outline Package, Body 3 x 4.4 mm, Pitch 0.65 mm; Supplier 1: Digi-Key; Supplier Part Number 1: CY2XP311ZXCT-ND; Supplier 2: Mouser; Supplier Part Number 2: 727-2XP311ZXCT; Input Frequency Min. (MHz): 25; Max. Operating Temp. (degreesC): 70; Min. Operating Temp. (degreesC): 0; Output Frequency Min. (MHz): 312.5; Packing: Tape and Reel; RoHS: Pb-Free; Mounting Technology: Surface Mount; Code_JEDEC: MO-153; ComponentLink1Description: Manufacturer URL; ComponentLink1URL: http://www.cypress.com/; ComponentLink2Description: Datasheet; ComponentLink2URL: http://www.cypress.com/?docID=49059; ComponentLink3Description: Package Specification; ComponentLink3URL: http://www.cypress.com/?docID=39142
footprint CYP-ZX8_N (SOP, 8-Leads, Body 4.5x3.1mm, Pitch 0.65mm, IPC Medium Density)
footprint CYP-ZX8_L (SOP, 8-Leads, Body 4.5x3.1mm, Pitch 0.65mm, IPC High Density)
footprint CYP-ZX8_M (SOP, 8-Leads, Body 4.5x3.1mm, Pitch 0.65mm, IPC Low Density)
pins: 1 VDD (power) "3.3 V or 2.5 V power supply", 2 VSS (power) "Ground", 3 XOUT "Parallel resonant crystal interface", 4 XIN "Parallel resonant crystal interface", 5 OE (in) "Output enable. When HIGH, the output is enabled. When LOW, the output is high-impedance", 6 CLK# (hiz) "Differential clock output", 7 CLK (hiz) "Differential clock output", 8 VDD (power) "3.3 V or 2.5 V power supply"

## CY2XP311ZXI
designator U?
LVPECL Clock Generator, 2.5 / 3.3 V, 1 Output, 312.5 MHz, -40 to 85 degC, 8-Pin TSSOP (ZX8), Tube; Manufacturer: Cypress; PartNumber: CY2XP311ZXI; Input Frequency Max. (MHz): 25; Max. Operating Voltage (V): 3.465; Min. Operating Voltage (V): 2.375; No. of Outputs: 1; Output Frequency Max. (MHz): 312.5; DatasheetVersion: Rev. *G; PackageVersion: Rev. *D, 09/2011; PackageReference: ZX8; PackageDescription: 8-Pin Thin Shrink Small Outline Package, Body 3 x 4.4 mm, Pitch 0.65 mm; Supplier 1: Digi-Key; Supplier Part Number 1: CY2XP311ZXI-ND; Supplier 2: Mouser; Supplier Part Number 2: 727-2XP311ZXI; Input Frequency Min. (MHz): 25; Max. Operating Temp. (degreesC): 85; Min. Operating Temp. (degreesC): -40; Output Frequency Min. (MHz): 312.5; Packing: Tube; RoHS: Pb-Free; Mounting Technology: Surface Mount; Code_JEDEC: MO-153; ComponentLink1Description: Manufacturer URL; ComponentLink1URL: http://www.cypress.com/; ComponentLink2Description: Datasheet; ComponentLink2URL: http://www.cypress.com/?docID=49059; ComponentLink3Description: Package Specification; ComponentLink3URL: http://www.cypress.com/?docID=39142
footprint CYP-ZX8_N (SOP, 8-Leads, Body 4.5x3.1mm, Pitch 0.65mm, IPC Medium Density)
footprint CYP-ZX8_L (SOP, 8-Leads, Body 4.5x3.1mm, Pitch 0.65mm, IPC High Density)
footprint CYP-ZX8_M (SOP, 8-Leads, Body 4.5x3.1mm, Pitch 0.65mm, IPC Low Density)
pins: 1 VDD (power) "3.3 V or 2.5 V power supply", 2 VSS (power) "Ground", 3 XOUT "Parallel resonant crystal interface", 4 XIN "Parallel resonant crystal interface", 5 OE (in) "Output enable. When HIGH, the output is enabled. When LOW, the output is high-impedance", 6 CLK# (hiz) "Differential clock output", 7 CLK (hiz) "Differential clock output", 8 VDD (power) "3.3 V or 2.5 V power supply"

## CY2XP311ZXIT
designator U?
LVPECL Clock Generator, 2.5 / 3.3 V, 1 Output, 312.5 MHz, -40 to 85 degC, 8-Pin TSSOP (ZX8), Tape and Reel; Manufacturer: Cypress; PartNumber: CY2XP311ZXIT; Input Frequency Max. (MHz): 25; Max. Operating Voltage (V): 3.465; Min. Operating Voltage (V): 2.375; No. of Outputs: 1; Output Frequency Max. (MHz): 312.5; DatasheetVersion: Rev. *G; PackageVersion: Rev. *D, 09/2011; PackageReference: ZX8; PackageDescription: 8-Pin Thin Shrink Small Outline Package, Body 3 x 4.4 mm, Pitch 0.65 mm; Supplier 1: Digi-Key; Supplier Part Number 1: CY2XP311ZXIT-ND; Supplier 2: Mouser; Supplier Part Number 2: 727-2XP311ZXIT; Input Frequency Min. (MHz): 25; Max. Operating Temp. (degreesC): 85; Min. Operating Temp. (degreesC): -40; Output Frequency Min. (MHz): 312.5; Packing: Tape and Reel; RoHS: Pb-Free; Mounting Technology: Surface Mount; Code_JEDEC: MO-153; ComponentLink1Description: Manufacturer URL; ComponentLink1URL: http://www.cypress.com/; ComponentLink2Description: Datasheet; ComponentLink2URL: http://www.cypress.com/?docID=49059; ComponentLink3Description: Package Specification; ComponentLink3URL: http://www.cypress.com/?docID=39142
footprint CYP-ZX8_N (SOP, 8-Leads, Body 4.5x3.1mm, Pitch 0.65mm, IPC Medium Density)
footprint CYP-ZX8_L (SOP, 8-Leads, Body 4.5x3.1mm, Pitch 0.65mm, IPC High Density)
footprint CYP-ZX8_M (SOP, 8-Leads, Body 4.5x3.1mm, Pitch 0.65mm, IPC Low Density)
pins: 1 VDD (power) "3.3 V or 2.5 V power supply", 2 VSS (power) "Ground", 3 XOUT "Parallel resonant crystal interface", 4 XIN "Parallel resonant crystal interface", 5 OE (in) "Output enable. When HIGH, the output is enabled. When LOW, the output is high-impedance", 6 CLK# (hiz) "Differential clock output", 7 CLK (hiz) "Differential clock output", 8 VDD (power) "3.3 V or 2.5 V power supply"

## CY22U1LCALGXI-00
designator U?
Low Power Programmable Clock Generator, 1.8 V, 1 Output, 1 to 200 MHz, -40 to 85 degC, 8-Pin QFN (LGX8), Tube; Manufacturer: Cypress; PartNumber: CY22U1LCALGXI-00; Input Frequency Max. (MHz): 166; Input Frequency Min. (MHz): 1; Max. Operating Voltage (V): 2; Min. Operating Voltage (V): 1.6; Output Frequency Max. (MHz): 200; DatasheetVersion: Rev. *E; PackageVersion: Rev. *B, 09/2012; PackageReference: LGX8; PackageDescription: 8-Pin Quad Flat No Lead, Body 1.7 x 1.7 mm, Pitch 0.4 mm; Supplier 1: Digi-Key; Supplier Part Number 1: CY22U1LCALGXI-00-ND; Supplier 2: Newark; Supplier Part Number 2: 50R9239; Supplier 3: Mouser; Supplier Part Number 3: 727-CY22U1LCALGXI-00; Max. Operating Temp. (degreesC): 85; Min. Operating Temp. (degreesC): -40; No. of Outputs: 1; Output Frequency Min. (MHz): 1; Packing: Tube; RoHS: Pb-Free; Mounting Technology: Surface Mount; Code_JEDEC: MO-220; ComponentLink1Description: Manufacturer URL; ComponentLink1URL: http://www.cypress.com/; ComponentLink2Description: Datasheet; ComponentLink2URL: http://www.cypress.com/?docID=41713; ComponentLink3Description: Package Specification; ComponentLink3URL: http://www.cypress.com/?docID=39438
footprint CYP-LGX8_N (QFN, 8-Leads, Body 1.7x1.7mm, Pitch 0.4mm, IPC Medium Density)
footprint CYP-LGX8_L (QFN, 8-Leads, Body 1.7x1.7mm, Pitch 0.4mm, IPC High Density)
footprint CYP-LGX8_M (QFN, 8-Leads, Body 1.7x1.7mm, Pitch 0.4mm, IPC Low Density)
pins: 1 XOUT "Crystal output. Float for external clock input.", 2 XIN/CLKIN (in) "Crystal or external clock input.", 3 PD#/OE (in) "Multifunction pin. Active low power down or active high output enable pin. Has weak internal pull up.", 4 GND (power) "Power supply ground.", 5 NC "No connect. Pin has no internal connection.", 6 CLKOUT (out) "Programmable clock output. Output voltage depends on VDD. Has weak internal pull down.", 7 NC "No connect. Pin has no internal connection.", 8 VDD (power) "Programmable power supply: CY22U1S: 2.5 V, 3.0 V, 3.3 V (standard voltage) CY22U1L: 1.8 V (low voltage)"

## CY22U1SCALGXI-00
designator U?
Low Power Programmable Clock Generator, 2.5 / 3.0 / 3.3 V, 1 Output, 1 to 200 MHz, -40 to 85 degC, 8-Pin QFN (LGX8), Tube; Manufacturer: Cypress; PartNumber: CY22U1SCALGXI-00; Input Frequency Max. (MHz): 166; Input Frequency Min. (MHz): 1; Max. Operating Voltage (V): 3.6; Min. Operating Voltage (V): 2.2; Output Frequency Max. (MHz): 200; DatasheetVersion: Rev. *E; PackageVersion: Rev. *B, 09/2012; PackageReference: LGX8; PackageDescription: 8-Pin Quad Flat No Lead, Body 1.7 x 1.7 mm, Pitch 0.4 mm; Supplier 1: Digi-Key; Supplier Part Number 1: CY22U1SCALGXI-00-ND; Supplier 2: Mouser; Supplier Part Number 2: 727-CY22U1SCALGXI-00; Max. Operating Temp. (degreesC): 85; Min. Operating Temp. (degreesC): -40; No. of Outputs: 1; Output Frequency Min. (MHz): 1; Packing: Tube; RoHS: Pb-Free; Mounting Technology: Surface Mount; Code_JEDEC: MO-220; ComponentLink1Description: Manufacturer URL; ComponentLink1URL: http://www.cypress.com/; ComponentLink2Description: Datasheet; ComponentLink2URL: http://www.cypress.com/?docID=41713; ComponentLink3Description: Package Specification; ComponentLink3URL: http://www.cypress.com/?docID=39438
footprint CYP-LGX8_N (QFN, 8-Leads, Body 1.7x1.7mm, Pitch 0.4mm, IPC Medium Density)
footprint CYP-LGX8_L (QFN, 8-Leads, Body 1.7x1.7mm, Pitch 0.4mm, IPC High Density)
footprint CYP-LGX8_M (QFN, 8-Leads, Body 1.7x1.7mm, Pitch 0.4mm, IPC Low Density)
pins: 1 XOUT "Crystal output. Float for external clock input.", 2 XIN/CLKIN (in) "Crystal or external clock input.", 3 PD#/OE (in) "Multifunction pin. Active low power down or active high output enable pin. Has weak internal pull up.", 4 GND (power) "Power supply ground.", 5 NC "No connect. Pin has no internal connection.", 6 CLKOUT (out) "Programmable clock output. Output voltage depends on VDD. Has weak internal pull down.", 7 NC "No connect. Pin has no internal connection.", 8 VDD (power) "Programmable power supply: CY22U1S: 2.5 V, 3.0 V, 3.3 V (standard voltage) CY22U1L: 1.8 V (low voltage)"